# EAGLE library part CA04-* (library king-displays)
10.16mm (0.4INCH) FOUR DIGIT NUMERIC DISPLAY Description Features 0.4 INCH DIGIT HEIGHT LOW CURRENT OPERATION. EXCELLENT CHARACTER APPEARANCE. EASY MOUNTING ON P.C. BOARDS OR SOCKETS. I.C. COMPATIBLE. MECHANICALLY RUGGED. STANDARD:GRAY FACE, WHITE SEGMENT. RoHS COMPLIANT. How to order Family color CA04 11EWA = Red 11SRWA = ultra Red 11YWA = Yellow 11GWA = Green Ref: Datasheet <http://www.kingbrightusa.com/images/catalog/SPEC/CA04-41EWA.pdf>
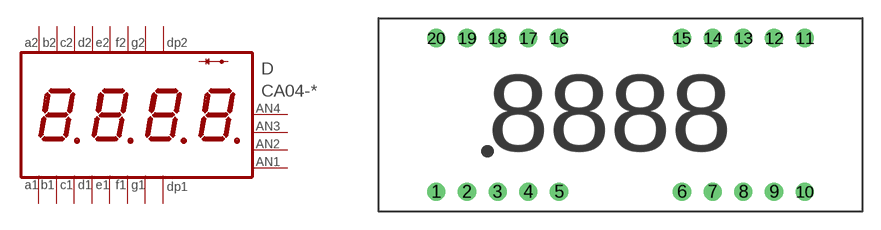
[diagram p3: symbol with the pads of CX04P4040X1600-20S; footprint CX04P4040X1600-20S]

Designator prefix D

## CA04-  [CX04P4040X1600-20S]
1  D1  pas
2  DP1  pas
3  E1  pas
4  C1  pas
5  AN2  pas
6  D2  pas
7  DP2  pas
8  E2  pas
9  C2  pas
10  AN4  pas
11  B2  pas
12  A2  pas
13  F2  pas
14  G2  pas
15  AN3  pas
16  B1  pas
17  A1  pas
18  F1  pas
19  G1  pas
20  AN1  pas

## Footprint CX04P4040X1600-20S (pad centres in mm)
Four led display 40.4mm L x 16.0mm W x 6.1mm H ----------------------------------------------
drill 1: 1 -15.24,-6.35; 2 -12.7,-6.35; 3 -10.16,-6.35; 4 -7.62,-6.35; 5 -5.08,-6.35; 6 5.08,-6.35; 7 7.62,-6.35; 8 10.16,-6.35; 9 12.7,-6.35; 10 15.24,-6.35; 11 15.24,6.35; 12 12.7,6.35; 13 10.16,6.35; 14 7.62,6.35; 15 5.08,6.35; 16 -5.08,6.35; 17 -7.62,6.35; 18 -10.16,6.35; 19 -12.7,6.35; 20 -15.24,6.35